# EAGLE library part PIC32MX795F512H-X_PT (library zenpirate)
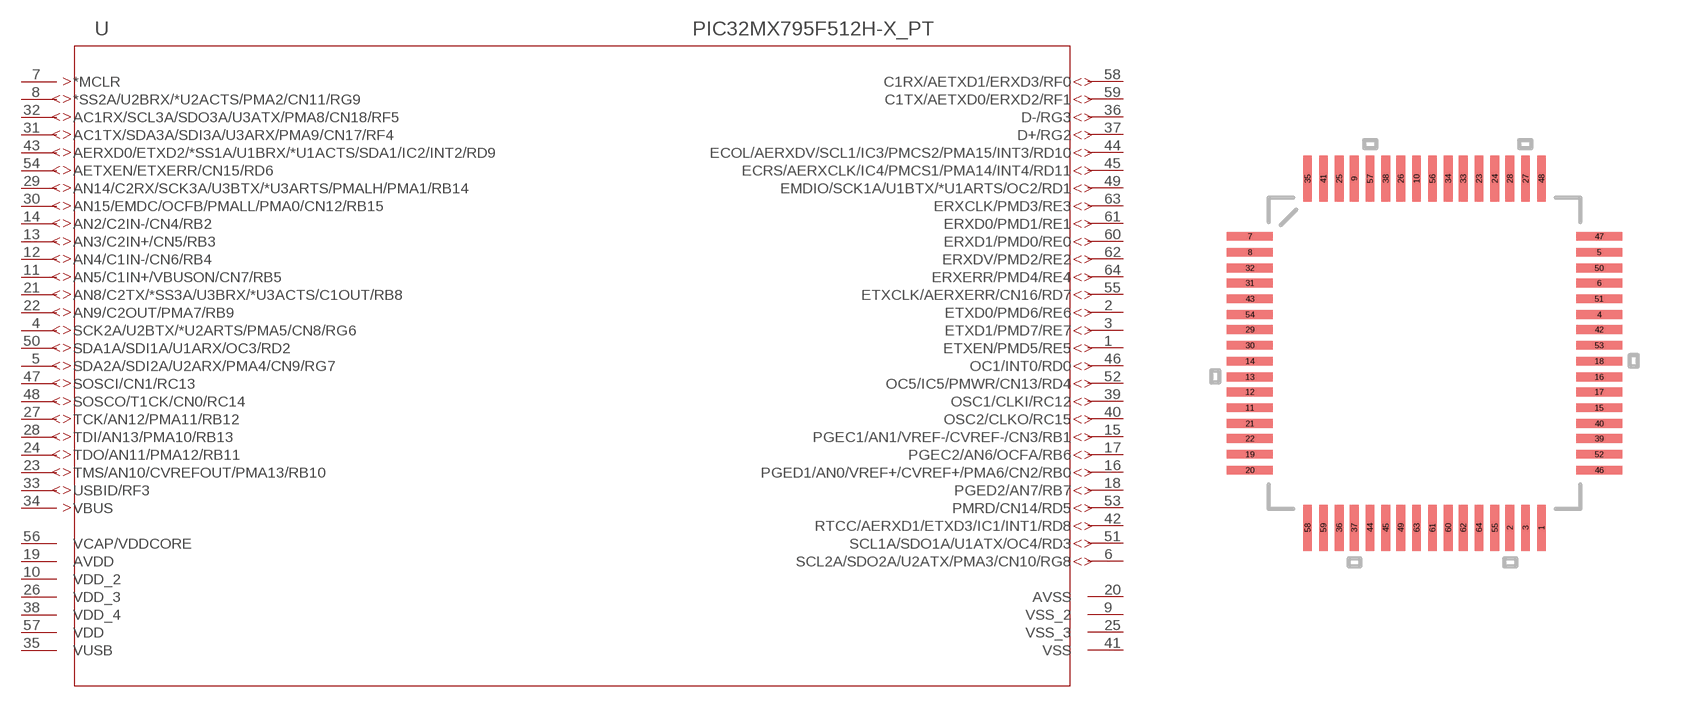
[diagram p2: symbol with the pads of TQFP64_10X10MC; footprint TQFP64_10X10MC]

Designator prefix -

## PIC32MX795F512H-X_PT  [TQFP64_10X10MC]
1  ETXEN/PMD5/RE5
2  ETXD0/PMD6/RE6
3  ETXD1/PMD7/RE7
4  SCK2A/U2BTX/*U2ARTS/PMA5/CN8/RG6
5  SDA2A/SDI2A/U2ARX/PMA4/CN9/RG7
6  SCL2A/SDO2A/U2ATX/PMA3/CN10/RG8
7  *MCLR  in
8  *SS2A/U2BRX/*U2ACTS/PMA2/CN11/RG9
9  VSS_2  pwr
10  VDD_2  pwr
11  AN5/C1IN+/VBUSON/CN7/RB5
12  AN4/C1IN-/CN6/RB4
13  AN3/C2IN+/CN5/RB3
14  AN2/C2IN-/CN4/RB2
15  PGEC1/AN1/VREF-/CVREF-/CN3/RB1
16  PGED1/AN0/VREF+/CVREF+/PMA6/CN2/RB0
17  PGEC2/AN6/OCFA/RB6
18  PGED2/AN7/RB7
19  AVDD  pwr
20  AVSS  pwr
21  AN8/C2TX/*SS3A/U3BRX/*U3ACTS/C1OUT/RB8
22  AN9/C2OUT/PMA7/RB9
23  TMS/AN10/CVREFOUT/PMA13/RB10
24  TDO/AN11/PMA12/RB11
25  VSS_3  pwr
26  VDD_3  pwr
27  TCK/AN12/PMA11/RB12
28  TDI/AN13/PMA10/RB13
29  AN14/C2RX/SCK3A/U3BTX/*U3ARTS/PMALH/PMA1/RB14
30  AN15/EMDC/OCFB/PMALL/PMA0/CN12/RB15
31  AC1TX/SDA3A/SDI3A/U3ARX/PMA9/CN17/RF4
32  AC1RX/SCL3A/SDO3A/U3ATX/PMA8/CN18/RF5
33  USBID/RF3
34  VBUS  in
35  VUSB  pwr
36  D-/RG3
37  D+/RG2
38  VDD_4  pwr
39  OSC1/CLKI/RC12
40  OSC2/CLKO/RC15
41  VSS  pwr
42  RTCC/AERXD1/ETXD3/IC1/INT1/RD8
43  AERXD0/ETXD2/*SS1A/U1BRX/*U1ACTS/SDA1/IC2/INT2/RD9
44  ECOL/AERXDV/SCL1/IC3/PMCS2/PMA15/INT3/RD10
45  ECRS/AERXCLK/IC4/PMCS1/PMA14/INT4/RD11
46  OC1/INT0/RD0
47  SOSCI/CN1/RC13
48  SOSCO/T1CK/CN0/RC14
49  EMDIO/SCK1A/U1BTX/*U1ARTS/OC2/RD1
50  SDA1A/SDI1A/U1ARX/OC3/RD2
51  SCL1A/SDO1A/U1ATX/OC4/RD3
52  OC5/IC5/PMWR/CN13/RD4
53  PMRD/CN14/RD5
54  AETXEN/ETXERR/CN15/RD6
55  ETXCLK/AERXERR/CN16/RD7
56  VCAP/VDDCORE  pwr
57  VDD  pwr
58  C1RX/AETXD1/ERXD3/RF0
59  C1TX/AETXD0/ERXD2/RF1
60  ERXD1/PMD0/RE0
61  ERXD0/PMD1/RE1
62  ERXDV/PMD2/RE2
63  ERXCLK/PMD3/RE3
64  ERXERR/PMD4/RE4

## Footprint TQFP64_10X10MC (pad centres in mm)
smd 0.279 x 1.473: 1 3.759,-5.613; 2 2.743,-5.613; 3 3.251,-5.613; 9 -2.261,5.613; 10 -0.254,5.613; 23 1.753,5.613; 24 2.261,5.613; 25 -2.743,5.613; 26 -0.762,5.613; 27 3.251,5.613; 28 2.743,5.613; 33 1.245,5.613; 34 0.762,5.613; 35 -3.759,5.613; 36 -2.743,-5.613; 37 -2.261,-5.613; 38 -1.245,5.613; 41 -3.251,5.613; 44 -1.753,-5.613; 45 -1.245,-5.613; 48 3.759,5.613; 49 -0.762,-5.613; 55 2.261,-5.613; 56 0.254,5.613; 57 -1.753,5.613; 58 -3.759,-5.613; 59 -3.251,-5.613; 60 0.762,-5.613; 61 0.254,-5.613; 62 1.245,-5.613; 63 -0.254,-5.613; 64 1.753,-5.613
smd 1.473 x 0.279: 4 5.613,1.245; 5 5.613,3.251; 6 5.613,2.261; 7 -5.613,3.759; 8 -5.613,3.251; 11 -5.613,-1.753; 12 -5.613,-1.245; 13 -5.613,-0.762; 14 -5.613,-0.254; 15 5.613,-1.753; 16 5.613,-0.762; 17 5.613,-1.245; 18 5.613,-0.254; 19 -5.613,-3.251; 20 -5.613,-3.759; 21 -5.613,-2.261; 22 -5.613,-2.743; 29 -5.613,0.762; 30 -5.613,0.254; 31 -5.613,2.261; 32 -5.613,2.743; 39 5.613,-2.743; 40 5.613,-2.261; 42 5.613,0.762; 43 -5.613,1.753; 46 5.613,-3.759; 47 5.613,3.759; 50 5.613,2.743; 51 5.613,1.753; 52 5.613,-3.251; 53 5.613,0.254; 54 -5.613,1.245